# Altium schematic symbol library wr_switch.SCHLIB: 182 symbols (part 3 of 3)
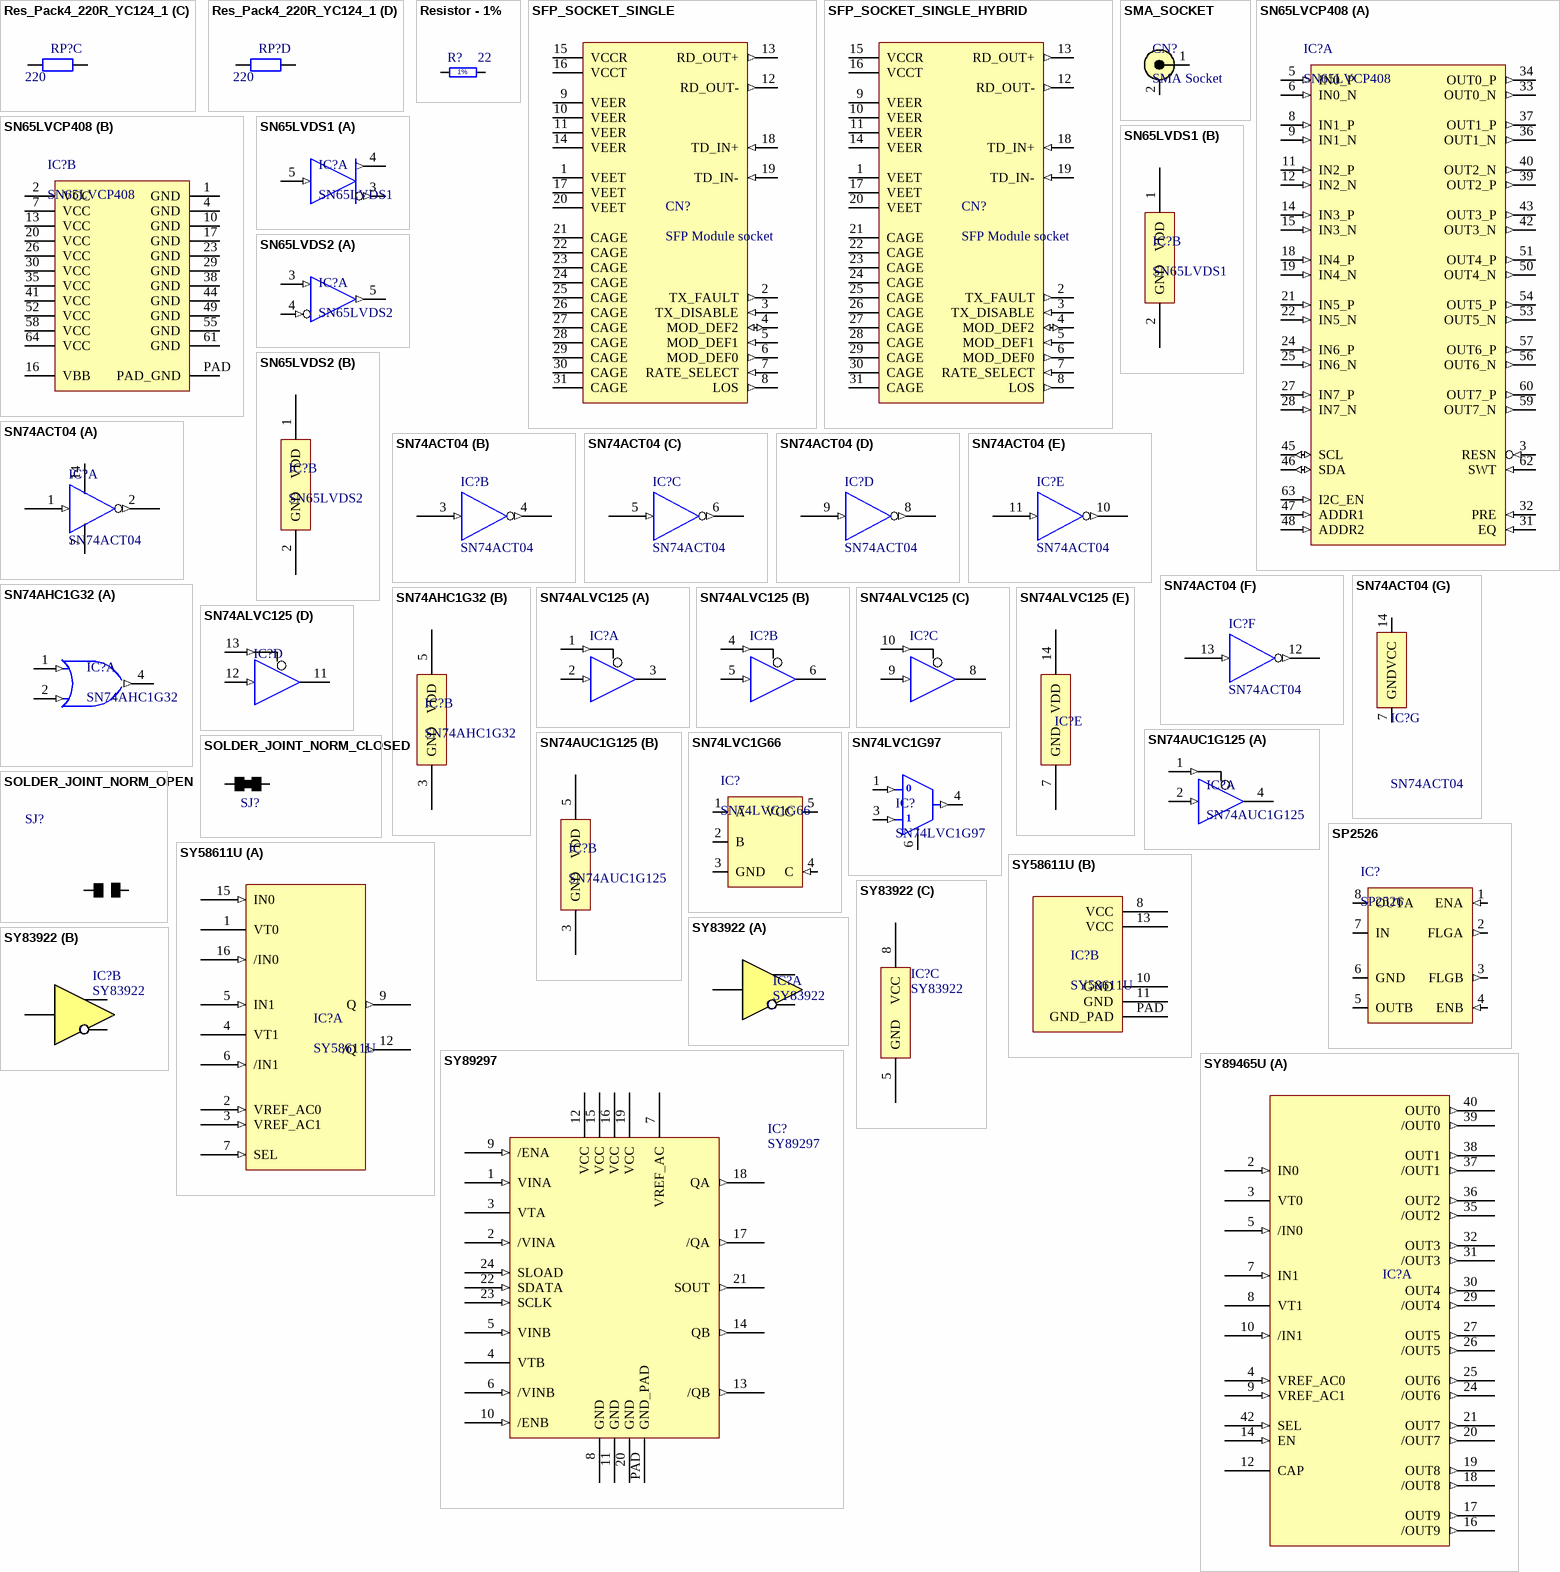
[diagram p25: symbols Res_Pack4_220R_YC124_1 to SY89465U]

## SFP_SOCKET_SINGLE
designator CN?, comment SFP Module socket
Socket for SFP module; RefId: Far/1256176
footprint SFP_SINGLE_PORT
pins: 1 VEET (power), 2 TX_FAULT (out), 3 TX_DISABLE (in), 4 MOD_DEF2 (io), 5 MOD_DEF1 (in), 6 MOD_DEF0 (out), 7 RATE_SELECT (in), 8 LOS (out), 9 VEER (power), 10 VEER (power), 11 VEER (power), 12 RD_OUT- (out), 13 RD_OUT+ (out), 14 VEER (power), 15 VCCR (power), 16 VCCT (power), 17 VEET (power), 18 TD_IN+ (in), 19 TD_IN- (in), 20 VEET (power), 21 CAGE (power), 22 CAGE (power), 23 CAGE (power), 24 CAGE (power), 25 CAGE (power), 26 CAGE (power), 27 CAGE (power), 28 CAGE (power), 29 CAGE (power), 30 CAGE (power), 31 CAGE (power)

## SFP_SOCKET_SINGLE_HYBRID
designator CN?, comment SFP Module socket
Socket for SFP module; RefId: Far/1256176
footprint SFP_SINGLE_PORT_HYBRID
pins: 1 VEET (power), 2 TX_FAULT (out), 3 TX_DISABLE (in), 4 MOD_DEF2 (io), 5 MOD_DEF1 (in), 6 MOD_DEF0 (out), 7 RATE_SELECT (in), 8 LOS (out), 9 VEER (power), 10 VEER (power), 10A VEER (power), 11 VEER (power), 11A VEER (power), 12 RD_OUT- (out), 12A RD_OUT- (out), 13 RD_OUT+ (out), 13A RD_OUT+ (out), 14 VEER (power), 14A VEER (power), 15 VCCR (power), 15A VCCR (power), 16 VCCT (power), 16A VCCT (power), 17 VEET (power), 17A VEET (power), 18 TD_IN+ (in), 18A TD_IN+ (in), 19 TD_IN- (in), 19A TD_IN- (in), 20 VEET (power), 20A VEET (power), 21 CAGE (power), 22 CAGE (power), 23 CAGE (power), 24 CAGE (power), 25 CAGE (power), 26 CAGE (power), 27 CAGE (power), 28 CAGE (power), 29 CAGE (power), 30 CAGE (power), 31 CAGE (power)

## SMA_SOCKET
designator CN?, comment SMA Socket
Value: Tyco 5-1814400-1; Supplier: Farnell 1556649
pins: 1 HOT, 2 GND

## SN65LVCP408
designator IC?
TI 8x8 gigabit crosspoint
footprint HTQFP64
part A pins: 3 RESN (in), 5 IN0_P (in), 6 IN0_N (in), 8 IN1_P (in), 9 IN1_N (in), 11 IN2_P (in), 12 IN2_N (in), 14 IN3_P (in), 15 IN3_N (in), 18 IN4_P (in), 19 IN4_N (in), 21 IN5_P (in), 22 IN5_N (in), 24 IN6_P (in), 25 IN6_N (in), 27 IN7_P (in), 28 IN7_N (in), 31 EQ (in), 32 PRE (in), 33 OUT0_N (out), 34 OUT0_P (out), 36 OUT1_N (out), 37 OUT1_P (out), 39 OUT2_P (out), 40 OUT2_N (out), 42 OUT3_N (out), 43 OUT3_P (out), 45 SCL (io), 46 SDA (io), 47 ADDR1 (in), 48 ADDR2 (in), 50 OUT4_N (out), 51 OUT4_P (out), 53 OUT5_N (out), 54 OUT5_P (out), 56 OUT6_N (out), 57 OUT6_P (out), 59 OUT7_N (out), 60 OUT7_P (out), 62 SWT (in), 63 I2C_EN (in)
part B pins: 1 GND (power), 2 VCC (power), 4 GND (power), 7 VCC (power), 10 GND (power), 13 VCC (power), 16 VBB (power), 17 GND (power), 20 VCC (power), 23 GND (power), 26 VCC (power), 29 GND (power), 30 VCC (power), 35 VCC (power), 38 GND (power), 41 VCC (power), 44 GND (power), 49 GND (power), 52 VCC (power), 55 GND (power), 58 VCC (power), 61 GND (power), 64 VCC (power), PAD PAD_GND (power)

## SN65LVDS1
designator IC?
TTL->LVDS buffer; RefId: 8452482; Value: SN65LVDS1DBVT; Supplier: Farnell
footprint SOT23-5AL (SOT23, 5-Leads, Body 2.9x1.6mm, Pitch 0.95mm, Lead Span 2.8mm, IPC High Density)
part A pins: 3 /Q (out), 4 Q (out), 5 A (in)
part B pins: 1 VDD, 2 GND

## SN65LVDS2
designator IC?
LVDS->TTL buffer; RefId: 1652269; Value: SN65LVDS2DBVR; Supplier: Farnell
footprint SOT23-5AL (SOT23, 5-Leads, Body 2.9x1.6mm, Pitch 0.95mm, Lead Span 2.8mm, IPC High Density)
part A pins: 3 A (in), 4 /A (in), 5 Q (out)
part B pins: 1 VDD, 2 GND

## SN74ACT04
designator IC?
Hex inverter
footprint DIP-14
footprint SO-14
part A pins: 1 (in), 2 (out), 7 (power), 14 (power)
part B pins: 3 (in), 4 (out)
part C pins: 5 (in), 6 (out)
part D pins: 8 (out), 9 (in)
part E pins: 10 (out), 11 (in)
part F pins: 12 (out), 13 (in)
part G pins: 7 GND (power), 14 VCC (power)
2 alternate drawings of the same symbol

## SN74AHC1G32
designator IC?
TI single OR gate; RefId: SN74AHC1G32DBVT-ND; Value: SN74AHC1G32DBVT-ND; Supplier: Digikey
footprint SOT23-5AL (SOT23, 5-Leads, Body 2.9x1.6mm, Pitch 0.95mm, Lead Span 2.8mm, IPC High Density)
part A pins: 1 A (in), 2 B (in), 4 Y (out)
part B pins: 3 GND, 5 VDD

## SN74ALVC125
designator IC?  (value not drawn)
Quad Buffer with 3-State Outputs with TTL Compatible Inputs; Value: SN74ALVC125
footprint SO-14
footprint 751A-03_L (SOIC, 14-Leads, Body 8.7x3.9mm, Pitch 1.27mm, IPC High Density)
footprint 751A-03_M (SOIC, 14-Leads, Body 8.7x3.9mm, Pitch 1.27mm, IPC Low Density)
signal-integrity model MC74ACT125D
part A pins: 1 ~{A} (in), 2 B (in), 3 Y (hiz)
part B pins: 4 ~{A} (in), 5 B (in), 6 Y (hiz)
part C pins: 8 Y (hiz), 9 B (in), 10 ~{A} (in)
part D pins: 11 Y (hiz), 12 B (in), 13 ~{A} (in)
part E pins: 7 GND, 14 VDD

## SN74AUC1G125
designator IC?
TI 2.5V single tri-state buffer; RefId: 1606269; Value: SN74AUC1G125DBVR; Supplier: Farnell
footprint SOT23-5AL (SOT23, 5-Leads, Body 2.9x1.6mm, Pitch 0.95mm, Lead Span 2.8mm, IPC High Density)
part A pins: 1 ~{OE} (in), 2 A (in), 4 Y (hiz)
part B pins: 3 GND, 5 VDD

## SN74LVC1G66
designator IC?
TI single analog switch; RefId: Far/1287587
footprint TI_DCK5
pins: 1 A, 2 B, 3 GND (power), 4 C (in), 5 VCC (power)

## SN74LVC1G97
designator IC?
Single-gate dual input multiplexer, LVC series; Value: SN74LVC1G97
footprint SOT23A-6L (SOT23, 6-Leads, Body 2.9x1.7mm, Pitch 0.95mm, Lead Span 2.8mm, IPC High Density)
pins: 1 A (in), 2 GND (power) hidden to GND, 3 B (in), 4 Y (out), 5 VCC (power) hidden to VCC, 6
text: 0

## SOLDER_JOINT_NORM_CLOSED
designator SJ?, comment Solder joint (closed)  (value not drawn)
footprint SJOINT_norm_short
pins: 1 P1, 2 P2

## SOLDER_JOINT_NORM_OPEN
designator SJ?, comment Solder joint (open)  (value not drawn)
footprint SJOINT_norm_open
pins: 1 P1, 2 P2

## SP2526
designator IC?
USB power switch; RefId: Far/9386610
footprint SOIC127P600-8AL (SOIC, 8-Leads, Body 4.9x3.9mm, Pitch 1.27mm, IPC High Density)
pins: 1 ENA (in), 2 FLGA (out), 3 FLGB (out), 4 ENB (in), 5 OUTB (power), 6 GND (power), 7 IN (power), 8 OUTA (power)

## SY58611U
designator IC?
Micrel 2:1 LVDS MUX
part A pins: 1 VT0, 2 VREF_AC0 (in), 3 VREF_AC1 (in), 4 VT1, 5 IN1 (in), 6 /IN1 (in), 7 SEL (in), 9 Q (out), 12 /Q (out), 15 IN0 (in), 16 /IN0 (in)
part B pins: 8 VCC (power), 10 GND (power), 11 GND (power), 13 VCC (power), PAD GND_PAD (power)

## SY83922
designator IC?
Dual LVTTL/LVCMOS to LVPECL buffer
part A pins: 1 Q0+, 2 Q0-, 7 IN0
part B pins: 3 Q1+, 4 Q1-, 6 IN1
part C pins: 5 GND (power), 8 VCC (power)

## SY89297
designator IC?
Precision delay line
pins: 1 VINA (in), 2 /VINA (in), 3 VTA, 4 VTB, 5 VINB (in), 6 /VINB (in), 7 VREF_AC (power), 8 GND (power), 9 /ENA (in), 10 /ENB (in), 11 GND (power), 12 VCC (power), 13 /QB (out), 14 QB (out), 15 VCC (power), 16 VCC (power), 17 /QA (out), 18 QA (out), 19 VCC (power), 20 GND (power), 21 SOUT (out), 22 SDATA (in), 23 SCLK (in), 24 SLOAD (in), PAD GND_PAD (power)

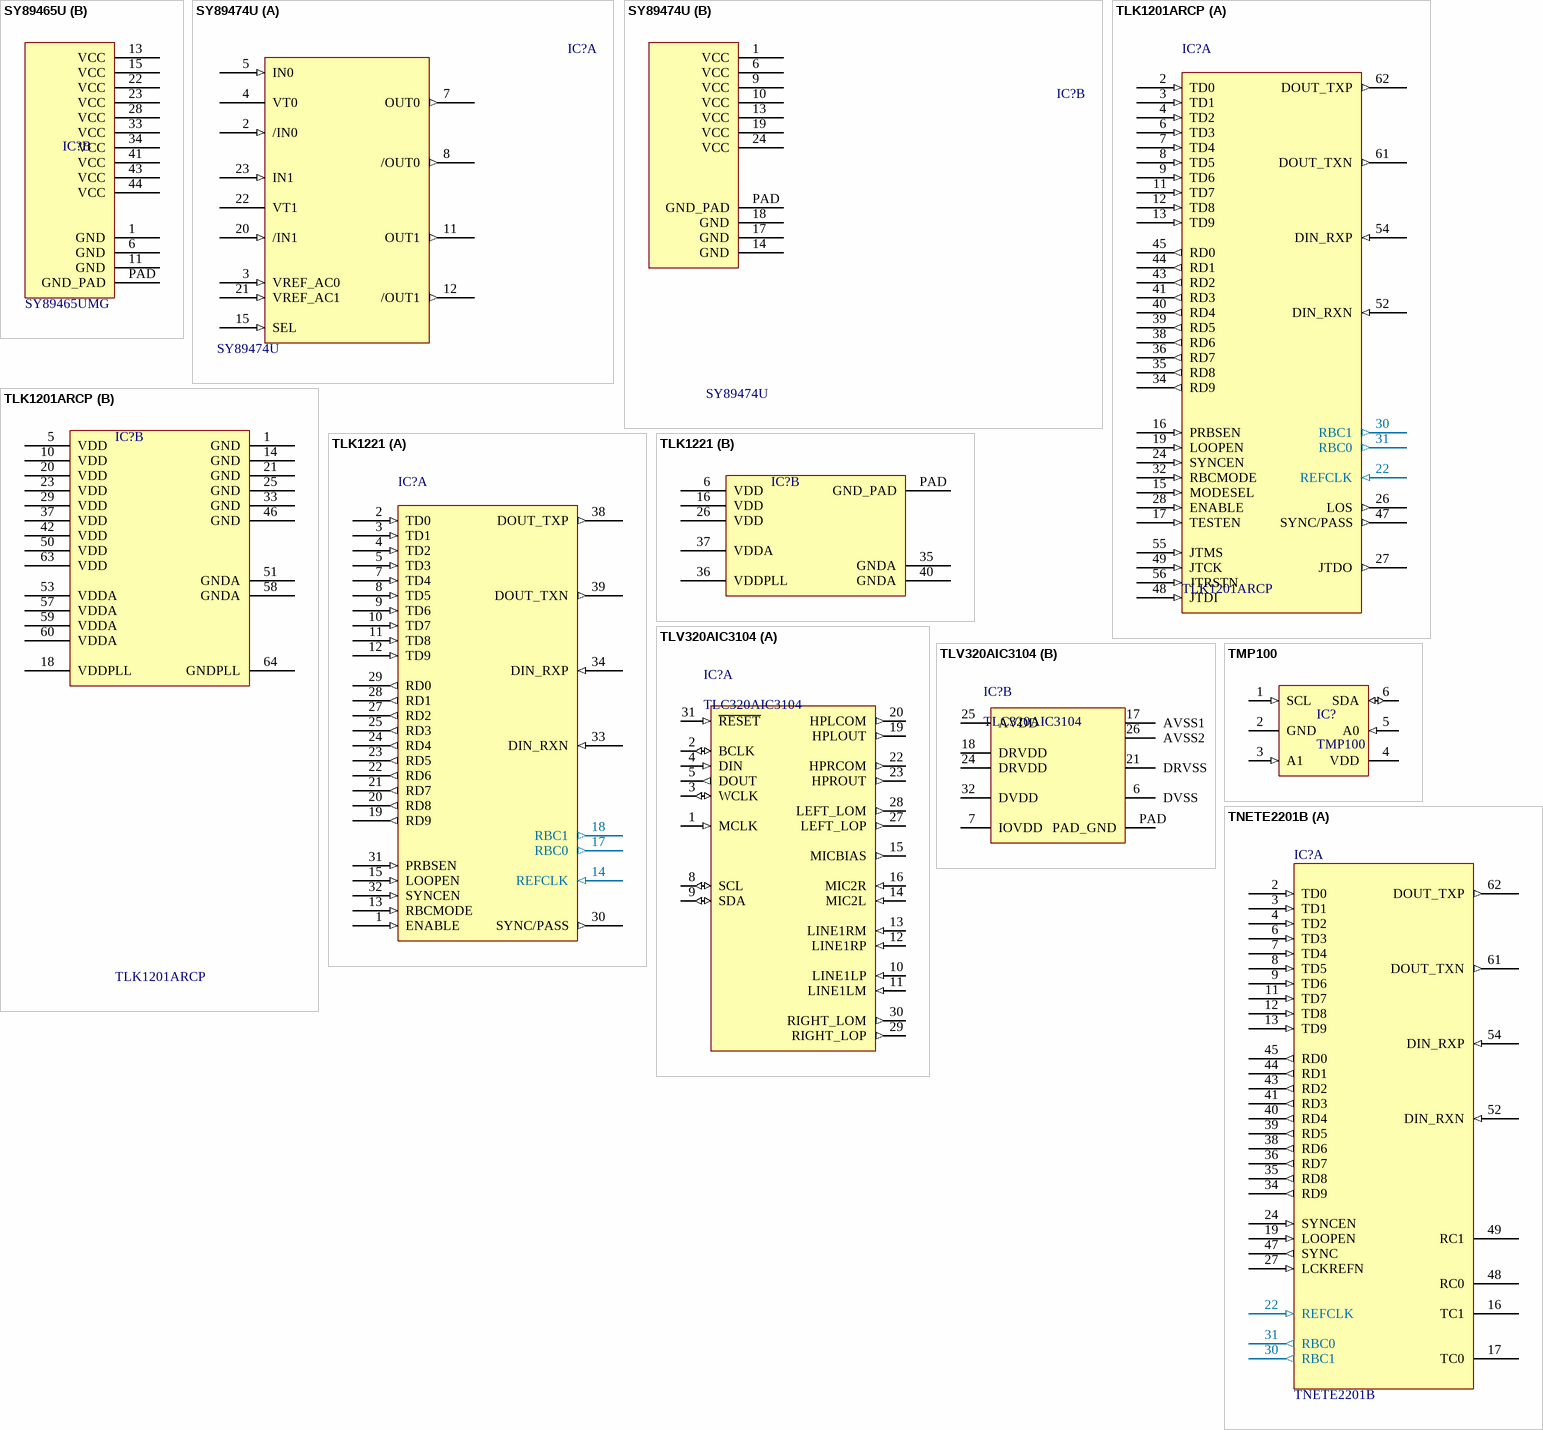
[diagram p18: symbols SY89465U to TNETE2201B]

## SY89465U
designator IC?  value SY89465UMG  (hidden comment: SY89465U)
Micrel 2:10 any->LVDS clock fanout; RefId: 576-1476-1-ND; Supplier: Digikey
footprint MLF44
part A pins: 2 IN0 (in), 3 VT0, 4 VREF_AC0 (in), 5 /IN0 (in), 7 IN1 (in), 8 VT1, 9 VREF_AC1 (in), 10 /IN1 (in), 12 CAP, 14 EN (in), 16 /OUT9 (out), 17 OUT9 (out), 18 /OUT8 (out), 19 OUT8 (out), 20 /OUT7 (out), 21 OUT7 (out), 24 /OUT6 (out), 25 OUT6 (out), 26 /OUT5 (out), 27 OUT5 (out), 29 /OUT4 (out), 30 OUT4 (out), 31 /OUT3 (out), 32 OUT3 (out), 35 /OUT2 (out), 36 OUT2 (out), 37 /OUT1 (out), 38 OUT1 (out), 39 /OUT0 (out), 40 OUT0 (out), 42 SEL (in)
part B pins: 1 GND (power), 6 GND (power), 11 GND (power), 13 VCC (power), 15 VCC (power), 22 VCC (power), 23 VCC (power), 28 VCC (power), 33 VCC (power), 34 VCC (power), 41 VCC (power), 43 VCC (power), 44 VCC (power), PAD GND_PAD (power)

## SY89474U
designator IC?
2:1 differential clock mux/2-output fanout; RefId: 576-2562-ND; Supplier: Digikey; Value: SY89474U
footprint MLF24
part A pins: 2 /IN0 (in), 3 VREF_AC0 (in), 4 VT0, 5 IN0 (in), 7 OUT0 (out), 8 /OUT0 (out), 11 OUT1 (out), 12 /OUT1 (out), 15 SEL (in), 20 /IN1 (in), 21 VREF_AC1 (in), 22 VT1, 23 IN1 (in)
part B pins: 1 VCC (power), 6 VCC (power), 9 VCC (power), 10 VCC (power), 13 VCC (power), 14 GND (power), 17 GND (power), 18 GND (power), 19 VCC (power), 24 VCC (power), PAD GND_PAD (power)

## TLK1201ARCP
designator IC?
Texas Instruments Gigabit Ethernet PHY with deterministic clocking and LVPECL output interface
part A pins: 2 TD0 (in), 3 TD1 (in), 4 TD2 (in), 6 TD3 (in), 7 TD4 (in), 8 TD5 (in), 9 TD6 (in), 11 TD7 (in), 12 TD8 (in), 13 TD9 (in), 15 MODESEL (in), 16 PRBSEN (in), 17 TESTEN (in), 19 LOOPEN (in), 22 REFCLK (in), 24 SYNCEN (in), 26 LOS (out), 27 JTDO (out), 28 ENABLE (in), 30 RBC1 (out), 31 RBC0 (out), 32 RBCMODE (in), 34 RD9 (out), 35 RD8 (out), 36 RD7 (out), 38 RD6 (out), 39 RD5 (out), 40 RD4 (out), 41 RD3 (out), 43 RD2 (out), 44 RD1 (out), 45 RD0 (out), 47 SYNC/PASS (out), 48 JTDI (in), 49 JTCK (in), 52 DIN_RXN (in), 54 DIN_RXP (in), 55 JTMS (in), 56 JTRSTN (in), 61 DOUT_TXN (out), 62 DOUT_TXP (out)
part B pins: 1 GND (power), 5 VDD (power), 10 VDD (power), 14 GND (power), 18 VDDPLL (power), 20 VDD (power), 21 GND (power), 23 VDD (power), 25 GND (power), 29 VDD (power), 33 GND (power), 37 VDD (power), 42 VDD (power), 46 GND (power), 50 VDD (power), 51 GNDA (power), 53 VDDA (power), 57 VDDA (power), 58 GNDA (power), 59 VDDA (power), 60 VDDA (power), 63 VDD (power), 64 GNDPLL (power)

## TLK1221
designator IC?  (value not drawn)
Texas Instruments Gigabit Ethernet PHY with deterministic clocking and LVPECL output interface; RefId: 1576976; Value: TLK1221RHAT; Supplier: Farnell
footprint QFN40_powerpad
part A pins: 1 ENABLE (in), 2 TD0 (in), 3 TD1 (in), 4 TD2 (in), 5 TD3 (in), 7 TD4 (in), 8 TD5 (in), 9 TD6 (in), 10 TD7 (in), 11 TD8 (in), 12 TD9 (in), 13 RBCMODE (in), 14 REFCLK (in), 15 LOOPEN (in), 17 RBC0 (out), 18 RBC1 (out), 19 RD9 (out), 20 RD8 (out), 21 RD7 (out), 22 RD6 (out), 23 RD5 (out), 24 RD4 (out), 25 RD3 (out), 27 RD2 (out), 28 RD1 (out), 29 RD0 (out), 30 SYNC/PASS (out), 31 PRBSEN (in), 32 SYNCEN (in), 33 DIN_RXN (in), 34 DIN_RXP (in), 38 DOUT_TXP (out), 39 DOUT_TXN (out)
part B pins: 6 VDD (power), 16 VDD (power), 26 VDD (power), 35 GNDA (power), 36 VDDPLL (power), 37 VDDA (power), 40 GNDA (power), PAD GND_PAD (power)

## TLV320AIC3104
designator IC?, comment TLC320AIC3104
TI audio codec
part A pins: 1 MCLK (in), 2 BCLK (io), 3 WCLK (io), 4 DIN (in), 5 DOUT (out), 8 SCL (io), 9 SDA (io), 10 LINE1LP (in), 11 LINE1LM (in), 12 LINE1RP (in), 13 LINE1RM (in), 14 MIC2L (in), 15 MICBIAS (out), 16 MIC2R (in), 19 HPLOUT (out), 20 HPLCOM (out), 22 HPRCOM (out), 23 HPROUT (out), 27 LEFT_LOP (out), 28 LEFT_LOM (out), 29 RIGHT_LOP (out), 30 RIGHT_LOM (out), 31 ~{RESET} (in)
part B pins: 6 DVSS (power), 7 IOVDD (power), 17 AVSS1 (power), 18 DRVDD (power), 21 DRVSS (power), 24 DRVDD (power), 25 AVDD (power), 26 AVSS2 (power), 32 DVDD (power), PAD PAD_GND (power)

## TMP100
designator IC?
I2C temp. sensor; RefId: 296-12750-1-ND; Value: TMP101NA/250; Supplier: Digikey
footprint SOT23A-6L (SOT23, 6-Leads, Body 2.9x1.7mm, Pitch 0.95mm, Lead Span 2.8mm, IPC High Density)
pins: 1 SCL (in), 2 GND (power), 3 A1 (in), 4 VDD (power), 5 A0 (in), 6 SDA (io)

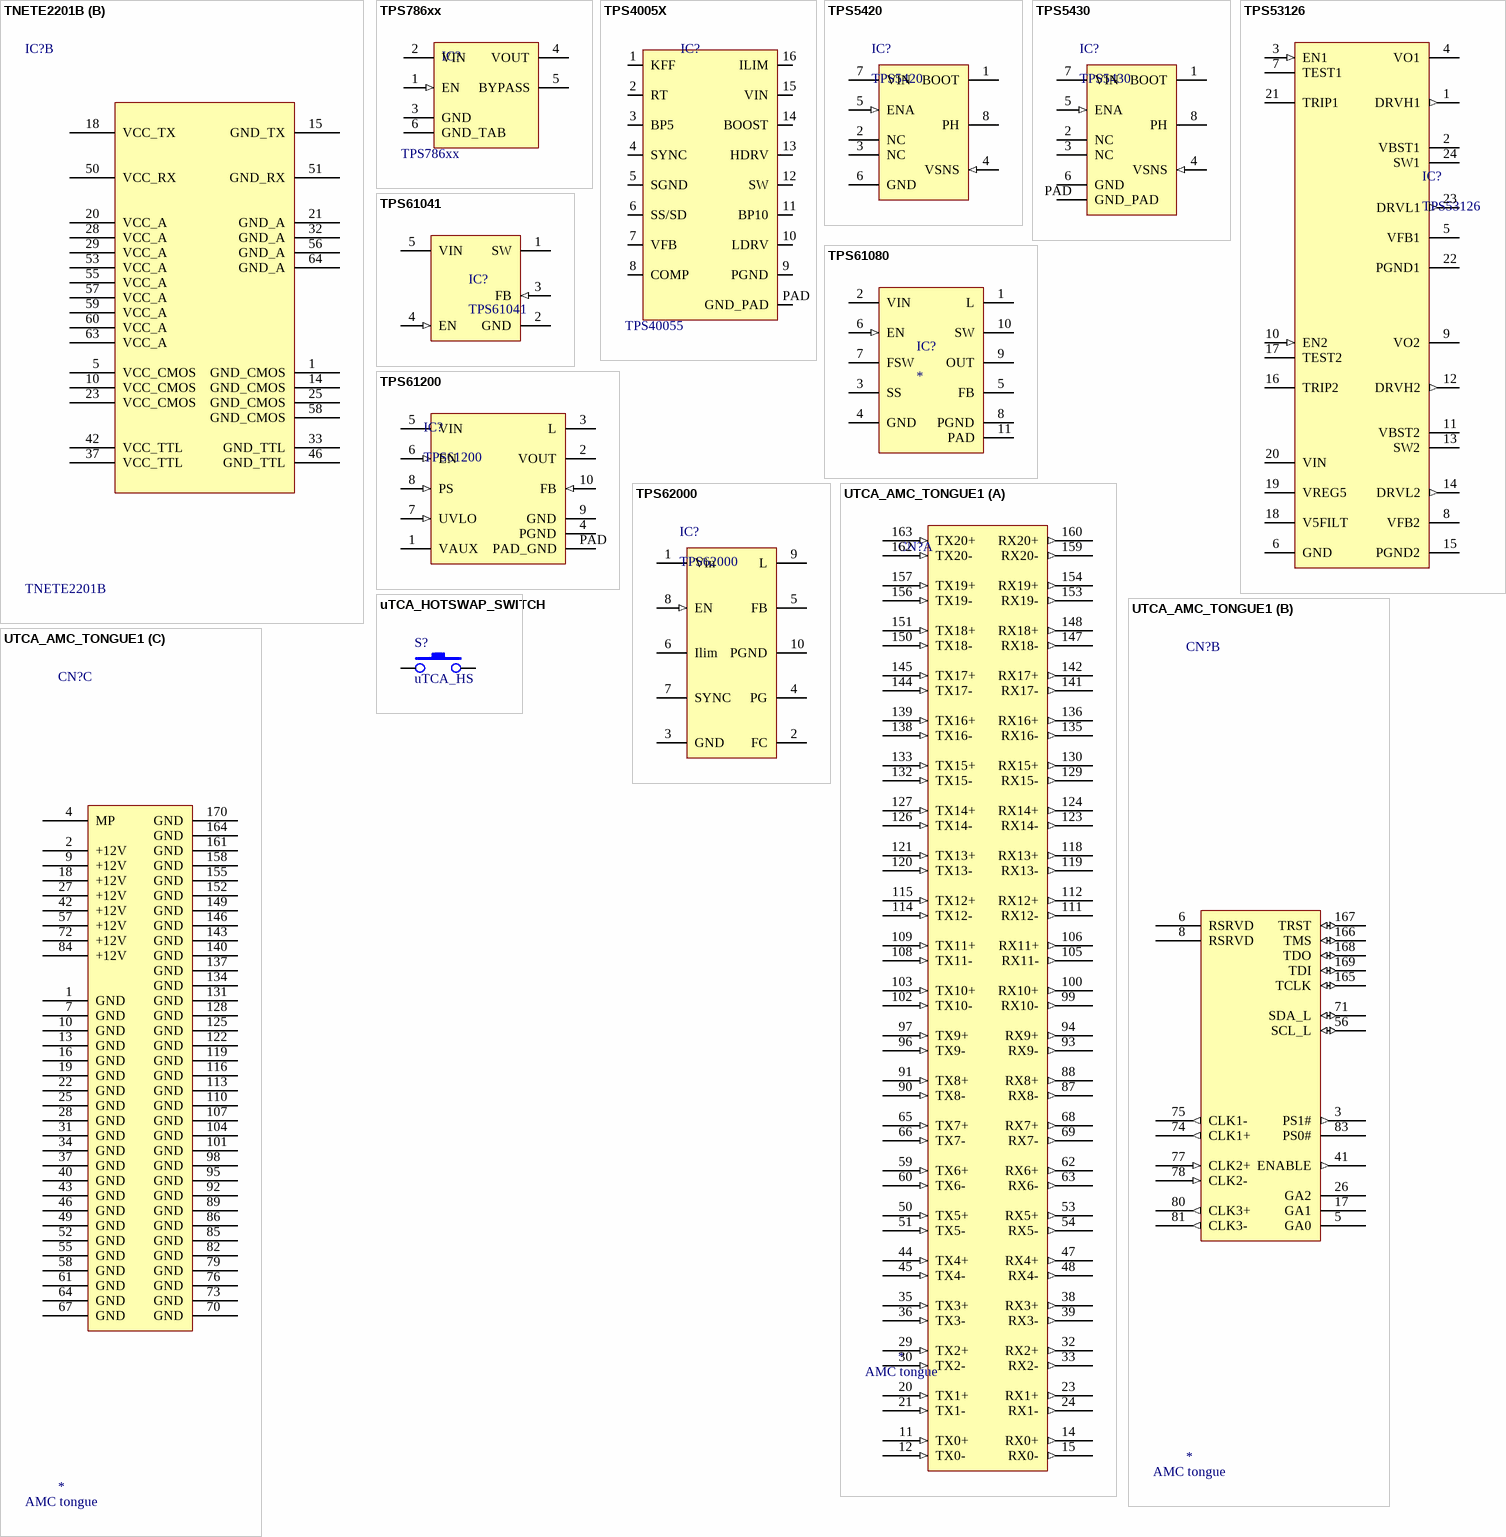
[diagram p19: symbols TNETE2201B to uTCA_HOTSWAP_SWITCH]

## TNETE2201B
designator IC?
Texas Instruments Gigabit Ethernet PHY with deterministic clocking and LVPECL output interface
part A pins: 2 TD0 (in), 3 TD1 (in), 4 TD2 (in), 6 TD3 (in), 7 TD4 (in), 8 TD5 (in), 9 TD6 (in), 11 TD7 (in), 12 TD8 (in), 13 TD9 (in), 16 TC1, 17 TC0, 19 LOOPEN (in), 22 REFCLK (in), 24 SYNCEN (in), 27 LCKREFN (in), 30 RBC1 (out), 31 RBC0 (out), 34 RD9 (out), 35 RD8 (out), 36 RD7 (out), 38 RD6 (out), 39 RD5 (out), 40 RD4 (out), 41 RD3 (out), 43 RD2 (out), 44 RD1 (out), 45 RD0 (out), 47 SYNC (out), 48 RC0, 49 RC1, 52 DIN_RXN (in), 54 DIN_RXP (in), 61 DOUT_TXN (out), 62 DOUT_TXP (out)
part B pins: 1 GND_CMOS (power), 5 VCC_CMOS (power), 10 VCC_CMOS (power), 14 GND_CMOS (power), 15 GND_TX (power), 18 VCC_TX (power), 20 VCC_A (power), 21 GND_A (power), 23 VCC_CMOS (power), 25 GND_CMOS (power), 28 VCC_A (power), 29 VCC_A (power), 32 GND_A (power), 33 GND_TTL (power), 37 VCC_TTL (power), 42 VCC_TTL (power), 46 GND_TTL (power), 50 VCC_RX (power), 51 GND_RX (power), 53 VCC_A (power), 55 VCC_A (power), 56 GND_A (power), 57 VCC_A (power), 58 GND_CMOS (power), 59 VCC_A (power), 60 VCC_A (power), 63 VCC_A (power), 64 GND_A (power)

## TPS786xx
designator IC?
TI low noise LDO, 1A load; Value: TPS786xx
footprint SOT223-6L (SOT223, 6-Leads, Body 6.5x3.5mm, Pitch 2.3mm, Lead Span 7mm, IPC High Density)
pins: 1 EN (in), 2 VIN (oe), 3 GND, 4 VOUT (power), 5 BYPASS, 6 GND_TAB

## TPS4005X
designator IC?  value TPS40055  (hidden comment: TPS4005X)
TI synchronous buck controller; RefId: 1535777; Supplier: Farnell
footprint TI_PWP_16 (SOP, 16-Leads, Body 5x4.4mm, Pitch 0.65mm, IPC High Density)
pins: 1 KFF, 2 RT, 3 BP5, 4 SYNC, 5 SGND, 6 SS/SD, 7 VFB, 8 COMP, 9 PGND, 10 LDRV, 11 BP10, 12 SW, 13 HDRV, 14 BOOST, 15 VIN, 16 ILIM, PAD GND_PAD

## TPS5420
designator IC?
Step-down switchmode converter
footprint SOIC127P600-8AL (SOIC, 8-Leads, Body 4.9x3.9mm, Pitch 1.27mm, IPC High Density)
pins: 1 BOOT, 2 NC, 3 NC, 4 VSNS (in), 5 ENA (in), 6 GND (power), 7 VIN (power), 8 PH (power)

## TPS5430
designator IC?
Step-down switchmode converter
footprint SOIC127P600-8AL_POWERPAD (SOIC, 8-Leads, Body 4.9x3.9mm, Pitch 1.27mm, IPC High Density)
pins: 1 BOOT, 2 NC, 3 NC, 4 VSNS (in), 5 ENA (in), 6 GND (power), 7 VIN (power), 8 PH (power), PAD GND_PAD (power)

## TPS53126
designator IC?
dual synchronous buck controller
footprint TSOP65P640-24AM (TSOP, 24-Leads, Body 7.8x4.4mm, Pitch 0.65mm, IPC Low Density)
pins: 1 DRVH1 (out), 2 VBST1, 3 EN1 (in), 4 VO1 (power), 5 VFB1, 6 GND (power), 7 TEST1, 8 VFB2, 9 VO2 (power), 10 EN2 (in), 11 VBST2, 12 DRVH2 (out), 13 SW2, 14 DRVL2 (out), 15 PGND2 (power), 16 TRIP2 (power), 17 TEST2, 18 V5FILT, 19 VREG5, 20 VIN (power), 21 TRIP1 (power), 22 PGND1 (power), 23 DRVL1 (out), 24 SW1

## TPS61041
designator IC?
RefId: 1564963; Value: TPS61041DBVR; Supplier: Farnell
footprint sot23-5
pins: 1 SW, 2 GND (power), 3 FB (in), 4 EN (in), 5 VIN

## TPS61080
designator IC?
TI boost converter; Value: TPS61080DRC
footprint SON50P300X300X80-10W2L (SON, 10-Leads, Body 3x3 mm, Pitch 0.5mm, IPC High Density)
pins: 1 L, 2 VIN (power), 3 SS, 4 GND (power), 5 FB, 6 EN (in), 7 FSW, 8 PGND, 9 OUT, 10 SW, 11 PAD

## TPS61200
designator IC?
TI boost converter
footprint TI_SON10
pins: 1 VAUX, 2 VOUT (power), 3 L, 4 PGND (power), 5 VIN (power), 6 EN (in), 7 UVLO (in), 8 PS (in), 9 GND (power), 10 FB (in), PAD PAD_GND

## TPS62000
designator IC?
TI sync converter
footprint TSSOP50P490-10AL (TSSOP, 10-Leads, Body 3x3mm, Pitch 0.5mm, IPC High Density)
pins: 1 Vin (power), 2 FC, 3 GND (power), 4 PG (oc), 5 FB, 6 Ilim, 7 SYNC, 8 EN (in), 9 L, 10 PGND (power)

## UTCA_AMC_TONGUE1
designator CN?  value AMC tongue
AMC1.0 connector
footprint UTCA_AMC_TONGUE (uTCA AMC1.0 AMC tongue connector)
part A pins: 11 TX0+ (in), 12 TX0- (in), 14 RX0+ (out), 15 RX0- (out), 20 TX1+ (in), 21 TX1- (in), 23 RX1+ (out), 24 RX1- (out), 29 TX2+ (in), 30 TX2- (in), 32 RX2+ (out), 33 RX2- (out), 35 TX3+ (in), 36 TX3- (in), 38 RX3+ (out), 39 RX3- (out), 44 TX4+ (in), 45 TX4- (in), 47 RX4+ (out), 48 RX4- (out), 50 TX5+ (in), 51 TX5- (in), 53 RX5+ (out), 54 RX5- (out), 59 TX6+ (in), 60 TX6- (in), 62 RX6+ (out), 63 RX6- (out), 65 TX7+ (in), 66 TX7- (in), 68 RX7+ (out), 69 RX7- (out), 87 RX8- (out), 88 RX8+ (out), 90 TX8- (in), 91 TX8+ (in), 93 RX9- (out), 94 RX9+ (out), 96 TX9- (in), 97 TX9+ (in), 99 RX10- (out), 100 RX10+ (out), 102 TX10- (in), 103 TX10+ (in), 105 RX11- (out), 106 RX11+ (out), 108 TX11- (in), 109 TX11+ (in), 111 RX12- (out), 112 RX12+ (out), 114 TX12- (in), 115 TX12+ (in), 118 RX13+ (out), 119 RX13- (out), 120 TX13- (in), 121 TX13+ (in), 123 RX14- (out), 124 RX14+ (out), 126 TX14- (in), 127 TX14+ (in), 129 RX15- (out), 130 RX15+ (out), 132 TX15- (in), 133 TX15+ (in), 135 RX16- (out), 136 RX16+ (out), 138 TX16- (in), 139 TX16+ (in), 141 RX17- (out), 142 RX17+ (out), 144 TX17- (in), 145 TX17+ (in), 147 RX18- (out), 148 RX18+ (out), 150 TX18- (in), 151 TX18+ (in), 153 RX19- (out), 154 RX19+ (out), 156 TX19- (in), 157 TX19+ (in), 159 RX20- (out), 160 RX20+ (out), 162 TX20- (in), 163 TX20+ (in)
part B pins: 3 PS1# (out), 5 GA0, 6 RSRVD, 8 RSRVD, 17 GA1, 26 GA2, 41 ENABLE (out), 56 SCL_L (io), 71 SDA_L (io), 74 CLK1+ (out), 75 CLK1- (out), 77 CLK2+ (in), 78 CLK2- (in), 80 CLK3+ (out), 81 CLK3- (out), 83 PS0#, 165 TCLK (io), 166 TMS (io), 167 TRST (io), 168 TDO (io), 169 TDI (io)
part C pins: 1 GND (power), 2 +12V (power), 4 MP (power), 7 GND (power), 9 +12V (power), 10 GND (power), 13 GND (power), 16 GND (power), 18 +12V (power), 19 GND (power), 22 GND (power), 25 GND (power), 27 +12V (power), 28 GND (power), 31 GND (power), 34 GND (power), 37 GND (power), 40 GND (power), 42 +12V (power), 43 GND (power), 46 GND (power), 49 GND (power), 52 GND (power), 55 GND (power), 57 +12V (power), 58 GND (power), 61 GND (power), 64 GND (power), 67 GND (power), 70 GND (power), 72 +12V (power), 73 GND (power), 76 GND (power), 79 GND (power), 82 GND (power), 84 +12V (power), 85 GND (power), 86 GND (power), 89 GND (power), 92 GND (power), 95 GND (power), 98 GND (power), 101 GND (power), 104 GND (power), 107 GND (power), 110 GND (power), 113 GND (power), 116 GND (power), 119 GND (power), 122 GND (power), 125 GND (power), 128 GND (power), 131 GND (power), 134 GND (power), 137 GND (power), 140 GND (power), 143 GND (power), 146 GND (power), 149 GND (power), 152 GND (power), 155 GND (power), 158 GND (power), 161 GND (power), 164 GND (power), 170 GND (power)

## uTCA_HOTSWAP_SWITCH
designator S?, comment uTCA_HS
Push button; RefId: 20849-209; Value: uTCA hotswap switch; Supplier: Schroff
footprint uTCA_HOTSWAP_SWITCH
pins: A, B, C, D
2 alternate drawings of the same symbol

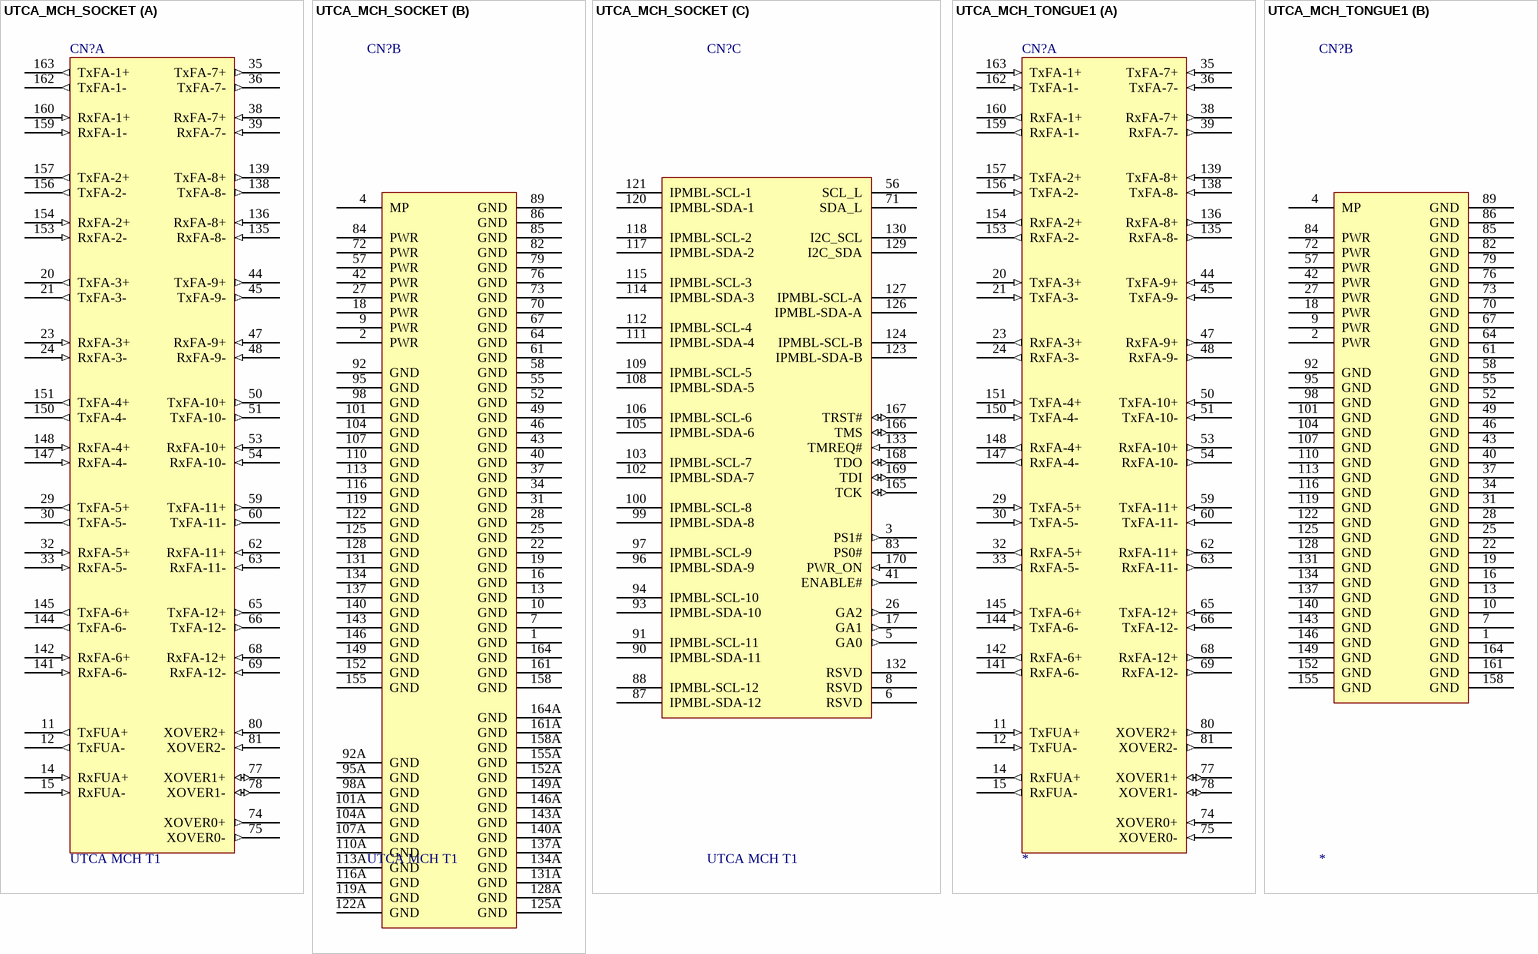
[diagram p20: symbols UTCA_MCH_SOCKET to UTCA_MCH_TONGUE1]

## UTCA_MCH_SOCKET
designator CN?, comment UTCA MCH T1
microTCA MTCA.0  MCH socket (AMC0.0 B+ connector with reversed pins); Value: MCH tongue 1; Value: MOLEX 75800-00001; RefId: 1353569; Supplier: Farnell
footprint CON_AMC_MOLEX_75800_00001_REVERSE (Molex AMC right-angle connector (pins reversed for the MCH))
part A pins: 11 TxFUA+ (out), 12 TxFUA- (out), 14 RxFUA+ (in), 15 RxFUA- (in), 20 TxFA-3+ (out), 21 TxFA-3- (out), 23 RxFA-3+ (in), 24 RxFA-3- (in), 29 TxFA-5+ (out), 30 TxFA-5- (out), 32 RxFA-5+ (in), 33 RxFA-5- (in), 35 TxFA-7+ (out), 36 TxFA-7- (out), 38 RxFA-7+ (in), 39 RxFA-7- (in), 44 TxFA-9+ (out), 45 TxFA-9- (out), 47 RxFA-9+ (in), 48 RxFA-9- (in), 50 TxFA-10+ (out), 51 TxFA-10- (out), 53 RxFA-10+ (in), 54 RxFA-10- (in), 59 TxFA-11+ (out), 60 TxFA-11- (out), 62 RxFA-11+ (in), 63 RxFA-11- (in), 65 TxFA-12+ (out), 66 TxFA-12- (out), 68 RxFA-12+ (in), 69 RxFA-12- (in), 74 XOVER0+ (out), 75 XOVER0- (out), 77 XOVER1+ (io), 78 XOVER1- (io), 80 XOVER2+ (in), 81 XOVER2- (in), 135 RxFA-8- (in), 136 RxFA-8+ (in), 138 TxFA-8- (out), 139 TxFA-8+ (out), 141 RxFA-6- (in), 142 RxFA-6+ (in), 144 TxFA-6- (out), 145 TxFA-6+ (out), 147 RxFA-4- (in), 148 RxFA-4+ (in), 150 TxFA-4- (out), 151 TxFA-4+ (out), 153 RxFA-2- (in), 154 RxFA-2+ (in), 156 TxFA-2- (out), 157 TxFA-2+ (out), 159 RxFA-1- (in), 160 RxFA-1+ (in), 162 TxFA-1- (out), 163 TxFA-1+ (out)
part B pins: 1 GND (power), 2 PWR (power), 4 MP (power), 7 GND (power), 9 PWR (power), 10 GND (power), 13 GND (power), 16 GND (power), 18 PWR (power), 19 GND (power), 22 GND (power), 25 GND (power), 27 PWR (power), 28 GND (power), 31 GND (power), 34 GND (power), 37 GND (power), 40 GND (power), 42 PWR (power), 43 GND (power), 46 GND (power), 49 GND (power), 52 GND (power), 55 GND (power), 57 PWR (power), 58 GND (power), 61 GND (power), 64 GND (power), 67 GND (power), 70 GND (power), 72 PWR (power), 73 GND (power), 76 GND (power), 79 GND (power), 82 GND (power), 84 PWR (power), 85 GND (power), 86 GND (power), 89 GND (power), 92 GND (power), 92A GND (power), 95 GND (power), 95A GND (power), 98 GND (power), 98A GND (power), 101 GND (power), 101A GND (power), 104 GND (power), 104A GND (power), 107 GND (power), 107A GND (power), 110 GND (power), 110A GND (power), 113 GND (power), 113A GND (power), 116 GND (power), 116A GND (power), 119 GND (power), 119A GND (power), 122 GND (power), 122A GND (power), 125 GND (power), 125A GND (power), 128 GND (power), 128A GND (power), 131 GND (power), 131A GND (power), 134 GND (power), 134A GND (power), 137 GND (power), 137A GND (power), 140 GND (power), 140A GND (power), 143 GND (power), 143A GND (power), 146 GND (power), 146A GND (power), 149 GND (power), 149A GND (power), 152 GND (power), 152A GND (power), 155 GND (power), 155A GND (power), 158 GND (power), 158A GND (power), 161 GND (power), 161A GND (power), 164 GND (power), 164A GND (power)
part C pins: 3 PS1# (out), 5 GA0 (out), 6 RSVD (hiz), 8 RSVD (hiz), 17 GA1 (out), 26 GA2 (out), 41 ENABLE# (out), 56 SCL_L (oc), 71 SDA_L (oc), 83 PS0#, 87 IPMBL-SDA-12 (oc), 88 IPMBL-SCL-12 (oc), 90 IPMBL-SDA-11 (oc), 91 IPMBL-SCL-11 (oc), 93 IPMBL-SDA-10 (oc), 94 IPMBL-SCL-10 (oc), 96 IPMBL-SDA-9 (oc), 97 IPMBL-SCL-9 (oc), 99 IPMBL-SDA-8 (oc), 100 IPMBL-SCL-8 (oc), 102 IPMBL-SDA-7 (oc), 103 IPMBL-SCL-7 (oc), 105 IPMBL-SDA-6 (oc), 106 IPMBL-SCL-6 (oc), 108 IPMBL-SDA-5 (oc), 109 IPMBL-SCL-5 (oc), 111 IPMBL-SDA-4 (oc), 112 IPMBL-SCL-4 (oc), 114 IPMBL-SDA-3 (oc), 115 IPMBL-SCL-3 (oc), 117 IPMBL-SDA-2 (oc), 118 IPMBL-SCL-2 (oc), 120 IPMBL-SDA-1 (oc), 121 IPMBL-SCL-1 (oc), 123 IPMBL-SDA-B (oc), 124 IPMBL-SCL-B (oc), 126 IPMBL-SDA-A (oc), 127 IPMBL-SCL-A (oc), 129 I2C_SDA (oc), 130 I2C_SCL (oc), 132 RSVD (hiz), 133 TMREQ# (in), 165 TCK (io), 166 TMS (io), 167 TRST# (io), 168 TDO (io), 169 TDI (io), 170 PWR_ON (in)

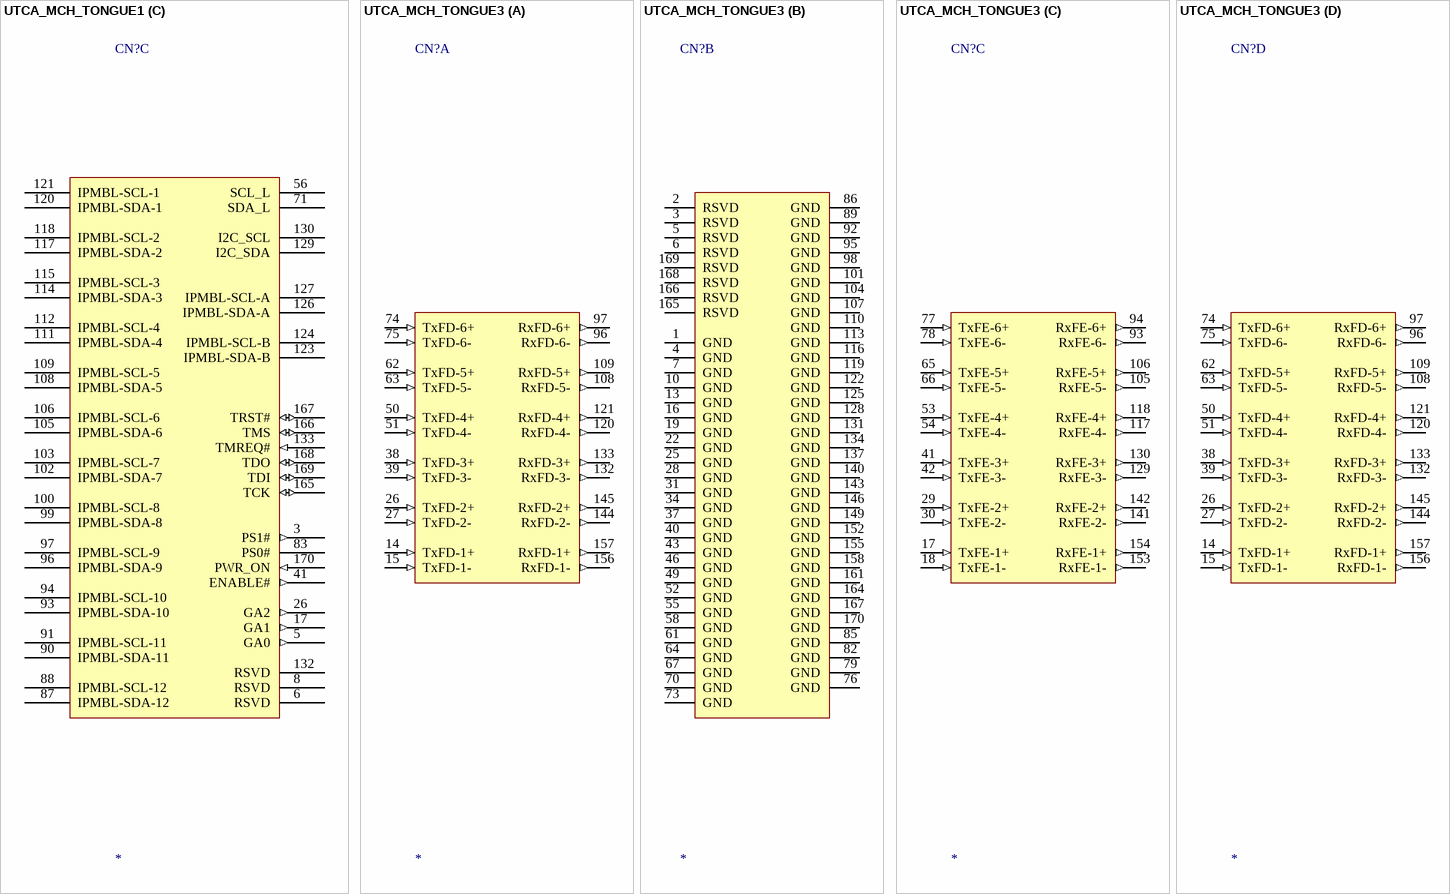
[diagram p21: symbols UTCA_MCH_TONGUE1 to UTCA_MCH_TONGUE3]

## UTCA_MCH_TONGUE1
designator CN?
microTCA MTCA.0 standard MCH connector 1; Value: MCH tongue 1
part A pins: 11 TxFUA+ (in), 12 TxFUA- (in), 14 RxFUA+ (out), 15 RxFUA- (out), 20 TxFA-3+ (in), 21 TxFA-3- (in), 23 RxFA-3+ (out), 24 RxFA-3- (out), 29 TxFA-5+ (in), 30 TxFA-5- (in), 32 RxFA-5+ (out), 33 RxFA-5- (out), 35 TxFA-7+ (in), 36 TxFA-7- (in), 38 RxFA-7+ (out), 39 RxFA-7- (out), 44 TxFA-9+ (in), 45 TxFA-9- (in), 47 RxFA-9+ (out), 48 RxFA-9- (out), 50 TxFA-10+ (in), 51 TxFA-10- (in), 53 RxFA-10+ (out), 54 RxFA-10- (out), 59 TxFA-11+ (in), 60 TxFA-11- (in), 62 RxFA-11+ (out), 63 RxFA-11- (out), 65 TxFA-12+ (in), 66 TxFA-12- (in), 68 RxFA-12+ (out), 69 RxFA-12- (out), 74 XOVER0+ (in), 75 XOVER0- (in), 77 XOVER1+ (io), 78 XOVER1- (io), 80 XOVER2+ (out), 81 XOVER2- (out), 135 RxFA-8- (out), 136 RxFA-8+ (out), 138 TxFA-8- (in), 139 TxFA-8+ (in), 141 RxFA-6- (out), 142 RxFA-6+ (out), 144 TxFA-6- (in), 145 TxFA-6+ (in), 147 RxFA-4- (out), 148 RxFA-4+ (out), 150 TxFA-4- (in), 151 TxFA-4+ (in), 153 RxFA-2- (out), 154 RxFA-2+ (out), 156 TxFA-2- (in), 157 TxFA-2+ (in), 159 RxFA-1- (out), 160 RxFA-1+ (out), 162 TxFA-1- (in), 163 TxFA-1+ (in)
part B pins: 1 GND (power), 2 PWR (power), 4 MP (power), 7 GND (power), 9 PWR (power), 10 GND (power), 13 GND (power), 16 GND (power), 18 PWR (power), 19 GND (power), 22 GND (power), 25 GND (power), 27 PWR (power), 28 GND (power), 31 GND (power), 34 GND (power), 37 GND (power), 40 GND (power), 42 PWR (power), 43 GND (power), 46 GND (power), 49 GND (power), 52 GND (power), 55 GND (power), 57 PWR (power), 58 GND (power), 61 GND (power), 64 GND (power), 67 GND (power), 70 GND (power), 72 PWR (power), 73 GND (power), 76 GND (power), 79 GND (power), 82 GND (power), 84 PWR (power), 85 GND (power), 86 GND (power), 89 GND (power), 92 GND (power), 95 GND (power), 98 GND (power), 101 GND (power), 104 GND (power), 107 GND (power), 110 GND (power), 113 GND (power), 116 GND (power), 119 GND (power), 122 GND (power), 125 GND (power), 128 GND (power), 131 GND (power), 134 GND (power), 137 GND (power), 140 GND (power), 143 GND (power), 146 GND (power), 149 GND (power), 152 GND (power), 155 GND (power), 158 GND (power), 161 GND (power), 164 GND (power)
part C pins: 3 PS1# (out), 5 GA0 (out), 6 RSVD (hiz), 8 RSVD (hiz), 17 GA1 (out), 26 GA2 (out), 41 ENABLE# (out), 56 SCL_L (oc), 71 SDA_L (oc), 83 PS0#, 87 IPMBL-SDA-12 (oc), 88 IPMBL-SCL-12 (oc), 90 IPMBL-SDA-11 (oc), 91 IPMBL-SCL-11 (oc), 93 IPMBL-SDA-10 (oc), 94 IPMBL-SCL-10 (oc), 96 IPMBL-SDA-9 (oc), 97 IPMBL-SCL-9 (oc), 99 IPMBL-SDA-8 (oc), 100 IPMBL-SCL-8 (oc), 102 IPMBL-SDA-7 (oc), 103 IPMBL-SCL-7 (oc), 105 IPMBL-SDA-6 (oc), 106 IPMBL-SCL-6 (oc), 108 IPMBL-SDA-5 (oc), 109 IPMBL-SCL-5 (oc), 111 IPMBL-SDA-4 (oc), 112 IPMBL-SCL-4 (oc), 114 IPMBL-SDA-3 (oc), 115 IPMBL-SCL-3 (oc), 117 IPMBL-SDA-2 (oc), 118 IPMBL-SCL-2 (oc), 120 IPMBL-SDA-1 (oc), 121 IPMBL-SCL-1 (oc), 123 IPMBL-SDA-B (oc), 124 IPMBL-SCL-B (oc), 126 IPMBL-SDA-A (oc), 127 IPMBL-SCL-A (oc), 129 I2C_SDA (oc), 130 I2C_SCL (oc), 132 RSVD (hiz), 133 TMREQ# (in), 165 TCK (io), 166 TMS (io), 167 TRST# (io), 168 TDO (io), 169 TDI (io), 170 PWR_ON (in)

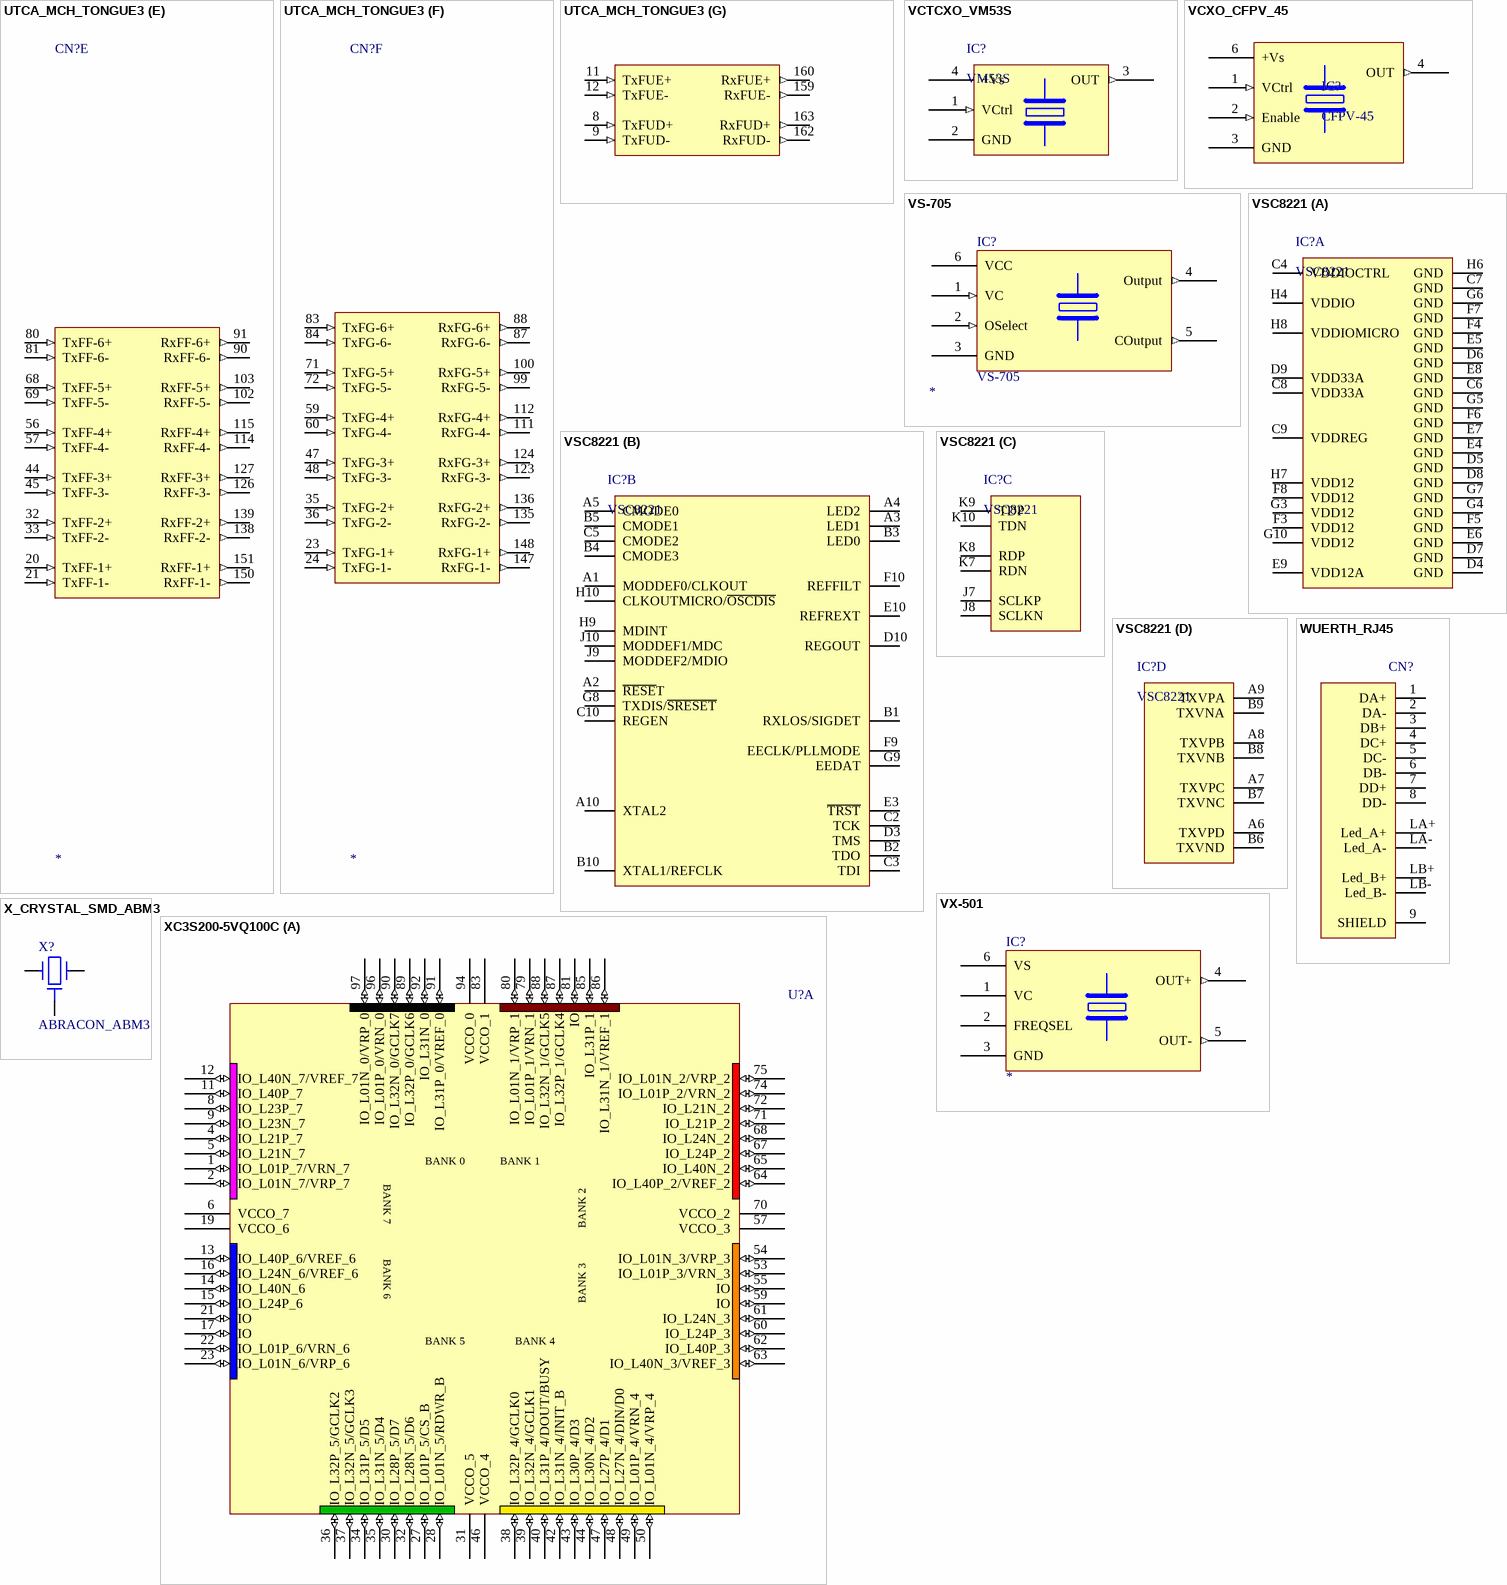
[diagram p22: symbols UTCA_MCH_TONGUE3 to XC3S200-5VQ100C]

## UTCA_MCH_TONGUE3
designator CN?
microTCA MTCA.0 standard MCH connector 3; Value: MCH tongue 3
footprint UTCA_MCH_TONGUE2_3_4 (uTCA MTCA.0 MCH tongue connector)
part A pins: 14 TxFD-1+ (in), 15 TxFD-1- (in), 26 TxFD-2+ (in), 27 TxFD-2- (in), 38 TxFD-3+ (in), 39 TxFD-3- (in), 50 TxFD-4+ (in), 51 TxFD-4- (in), 62 TxFD-5+ (in), 63 TxFD-5- (in), 74 TxFD-6+ (in), 75 TxFD-6- (in), 96 RxFD-6- (out), 97 RxFD-6+ (out), 108 RxFD-5- (out), 109 RxFD-5+ (out), 120 RxFD-4- (out), 121 RxFD-4+ (out), 132 RxFD-3- (out), 133 RxFD-3+ (out), 144 RxFD-2- (out), 145 RxFD-2+ (out), 156 RxFD-1- (out), 157 RxFD-1+ (out)
part B pins: 1 GND (power), 2 RSVD, 3 RSVD, 4 GND (power), 5 RSVD, 6 RSVD, 7 GND (power), 10 GND (power), 13 GND (power), 16 GND (power), 19 GND (power), 22 GND (power), 25 GND (power), 28 GND (power), 31 GND (power), 34 GND (power), 37 GND (power), 40 GND (power), 43 GND (power), 46 GND (power), 49 GND (power), 52 GND (power), 55 GND (power), 58 GND (power), 61 GND (power), 64 GND (power), 67 GND (power), 70 GND (power), 73 GND (power), 76 GND (power), 79 GND (power), 82 GND (power), 85 GND (power), 86 GND (power), 89 GND (power), 92 GND (power), 95 GND (power), 98 GND (power), 101 GND (power), 104 GND (power), 107 GND (power), 110 GND (power), 113 GND (power), 116 GND (power), 119 GND (power), 122 GND (power), 125 GND (power), 128 GND (power), 131 GND (power), 134 GND (power), 137 GND (power), 140 GND (power), 143 GND (power), 146 GND (power), 149 GND (power), 152 GND (power), 155 GND (power), 158 GND (power), 161 GND (power), 164 GND (power), 165 RSVD, 166 RSVD, 167 GND (power), 168 RSVD, 169 RSVD, 170 GND (power)
part C pins: 17 TxFE-1+ (in), 18 TxFE-1- (in), 29 TxFE-2+ (in), 30 TxFE-2- (in), 41 TxFE-3+ (in), 42 TxFE-3- (in), 53 TxFE-4+ (in), 54 TxFE-4- (in), 65 TxFE-5+ (in), 66 TxFE-5- (in), 77 TxFE-6+ (in), 78 TxFE-6- (in), 93 RxFE-6- (out), 94 RxFE-6+ (out), 105 RxFE-5- (out), 106 RxFE-5+ (out), 117 RxFE-4- (out), 118 RxFE-4+ (out), 129 RxFE-3- (out), 130 RxFE-3+ (out), 141 RxFE-2- (out), 142 RxFE-2+ (out), 153 RxFE-1- (out), 154 RxFE-1+ (out)
part D pins: 14 TxFD-1+ (in), 15 TxFD-1- (in), 26 TxFD-2+ (in), 27 TxFD-2- (in), 38 TxFD-3+ (in), 39 TxFD-3- (in), 50 TxFD-4+ (in), 51 TxFD-4- (in), 62 TxFD-5+ (in), 63 TxFD-5- (in), 74 TxFD-6+ (in), 75 TxFD-6- (in), 96 RxFD-6- (out), 97 RxFD-6+ (out), 108 RxFD-5- (out), 109 RxFD-5+ (out), 120 RxFD-4- (out), 121 RxFD-4+ (out), 132 RxFD-3- (out), 133 RxFD-3+ (out), 144 RxFD-2- (out), 145 RxFD-2+ (out), 156 RxFD-1- (out), 157 RxFD-1+ (out)
part E pins: 20 TxFF-1+ (in), 21 TxFF-1- (in), 32 TxFF-2+ (in), 33 TxFF-2- (in), 44 TxFF-3+ (in), 45 TxFF-3- (in), 56 TxFF-4+ (in), 57 TxFF-4- (in), 68 TxFF-5+ (in), 69 TxFF-5- (in), 80 TxFF-6+ (in), 81 TxFF-6- (in), 90 RxFF-6- (out), 91 RxFF-6+ (out), 102 RxFF-5- (out), 103 RxFF-5+ (out), 114 RxFF-4- (out), 115 RxFF-4+ (out), 126 RxFF-3- (out), 127 RxFF-3+ (out), 138 RxFF-2- (out), 139 RxFF-2+ (out), 150 RxFF-1- (out), 151 RxFF-1+ (out)
part F pins: 23 TxFG-1+ (in), 24 TxFG-1- (in), 35 TxFG-2+ (in), 36 TxFG-2- (in), 47 TxFG-3+ (in), 48 TxFG-3- (in), 59 TxFG-4+ (in), 60 TxFG-4- (in), 71 TxFG-5+ (in), 72 TxFG-5- (in), 83 TxFG-6+ (in), 84 TxFG-6- (in), 87 RxFG-6- (out), 88 RxFG-6+ (out), 99 RxFG-5- (out), 100 RxFG-5+ (out), 111 RxFG-4- (out), 112 RxFG-4+ (out), 123 RxFG-3- (out), 124 RxFG-3+ (out), 135 RxFG-2- (out), 136 RxFG-2+ (out), 147 RxFG-1- (out), 148 RxFG-1+ (out)
part G pins: 8 TxFUD+ (in), 9 TxFUD- (in), 11 TxFUE+ (in), 12 TxFUE- (in), 159 RxFUE- (out), 160 RxFUE+ (out), 162 RxFUD- (out), 163 RxFUD+ (out)

## VCTCXO_VM53S
designator IC?, comment VM53S
VCTCXO oscillator
footprint VCTCXO_VM53S
pins: 1 VCtrl (in), 2 GND (power), 3 OUT (out), 4 +Vs (power)

## VCXO_CFPV_45
designator IC?, comment CFPV-45
VCXO oscillator
footprint vs-705
pins: 1 VCtrl (in), 2 Enable (in), 3 GND (power), 4 OUT (out), 6 +Vs (power)

## VS-705
designator IC?
Vectron Voltage Controlled SAW Oscillator; Value: *
footprint VS-705
pins: 1 VC (in), 2 OSelect (in), 3 GND (power), 4 Output (out), 5 COutput (out), 6 VCC (power)

## VSC8221
designator IC?
Vitesse Gigabit Ethernet PHY
footprint BGA100C80P10X10_900X900X110 (BGA, 100-Leads, Body 9.0x9.0mm,  Pitch 0.80mm)
part A pins: C4 VDDIOCTRL, C6 GND, C7 GND, C8 VDD33A, C9 VDDREG, D4 GND, D5 GND, D6 GND, D7 GND, D8 GND, D9 VDD33A, E4 GND, E5 GND, E6 GND, E7 GND, E8 GND, E9 VDD12A, F3 VDD12, F4 GND, F5 GND, F6 GND, F7 GND, F8 VDD12, G3 VDD12, G4 GND, G5 GND, G6 GND, G7 GND, G10 VDD12, H4 VDDIO, H6 GND, H7 VDD12, H8 VDDIOMICRO
part B pins: A1 MODDEF0/CLKOUT, A2 ~{RESE}T, A3 LED1, A4 LED2, A5 CMODE0, A10 XTAL2, B1 RXLOS/SIGDET, B2 TDO, B3 LED0, B4 CMODE3, B5 CMODE1, B10 XTAL1/REFCLK, C2 TCK, C3 TDI, C5 CMODE2, C10 REGEN, D3 TMS, D10 REGOUT, E3 ~{TRST}, E10 REFREXT, F9 EECLK/PLLMODE, F10 REFFILT, G8 TXDIS/~{SRESET}, G9 EEDAT, H9  MDINT, H10 CLKOUTMICRO/~{OSCDIS}, J9 MODDEF2/MDIO, J10 MODDEF1/MDC
part C pins: J7 SCLKP, J8 SCLKN, K7 RDN, K8 RDP, K9 TDP, K10 TDN
part D pins: A6 TXVPD, A7 TXVPC, A8 TXVPB, A9 TXVPA, B6 TXVND, B7 TXVNC, B8 TXVNB, B9 TXVNA

## VX-501
designator IC?
Vectron VCXO
pins: 1 VC, 2 FREQSEL, 3 GND (power), 4 OUT+ (out), 5 OUT- (out), 6 VS (power)

## WUERTH_RJ45
designator CN?  (value not drawn)
RJ45 Ethernet jack with 2 LEDs
footprint CON_RJ45_WUERTH_615008137421
pins: 1 DA+, 2 DA-, 3 DB+, 4 DC+, 5 DC-, 6 DB-, 7 DD+, 8 DD-, 9 SHIELD, LA+ Led_A+ (power), LA- Led_A- (power), LB+ Led_B+ (power), LB- Led_B- (power)

## X_CRYSTAL_SMD_ABM3
designator X?, comment ABRACON_ABM3
Miniature crystal oscillator (ABRACON)
footprint XTALL_ABM8 (Footprint not found)
footprint XTALL_ABM3 (Abracon ABM3 xtal series)
footprint ABRACON_ABMM
pins: 1, 2, 3, 4
2 alternate drawings of the same symbol

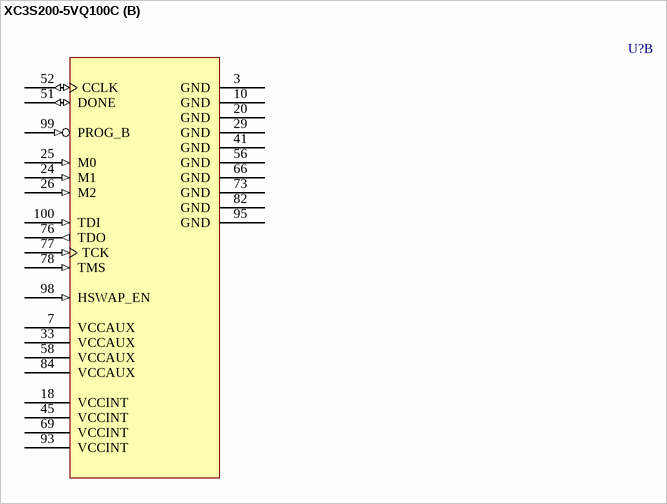
[diagram p23: symbol XC3S200-5VQ100C]

## XC3S200-5VQ100C
designator U?
Spartan-3 1.2V FPGA, 63 User I/Os, 100-pin VQFP, High Performance, Commercial Grade; Package Information: Latest Revision: ver1.1, Oct-2002; Code - JEDEC: MS-026-AED; Code - IPC: SQFP14X14-100; Published: 17-Sep-2003; Datasheet: Latest Revision: Dec-2003; Package Reference: VQ100; Publisher: Altium Limited
footprint VQ100 (100-Pin Very Thin Quad Flat Pack (VQ100))
3D model XC3S200-VQ100 (100-Pin Very Thin Quad Flat Pack (VQ100))
part A pins: 1 IO_L01P_7/VRN_7 (io), 2 IO_L01N_7/VRP_7 (io), 4 IO_L21P_7 (io), 5 IO_L21N_7 (io), 6 VCCO_7 (power), 8 IO_L23P_7 (io), 9 IO_L23N_7 (io), 11 IO_L40P_7 (io), 12 IO_L40N_7/VREF_7 (io), 13 IO_L40P_6/VREF_6 (io), 14 IO_L40N_6 (io), 15 IO_L24P_6 (io), 16 IO_L24N_6/VREF_6 (io), 17 IO (io), 19 VCCO_6 (power), 21 IO (io), 22 IO_L01P_6/VRN_6 (io), 23 IO_L01N_6/VRP_6 (io), 27 IO_L01P_5/CS_B (io), 28 IO_L01N_5/RDWR_B (io), 30 IO_L28P_5/D7 (io), 31 VCCO_5 (power), 32 IO_L28N_5/D6 (io), 34 IO_L31P_5/D5 (io), 35 IO_L31N_5/D4 (io), 36 IO_L32P_5/GCLK2 (io), 37 IO_L32N_5/GCLK3 (io), 38 IO_L32P_4/GCLK0 (io), 39 IO_L32N_4/GCLK1 (io), 40 IO_L31P_4/DOUT/BUSY (io), 42 IO_L31N_4/INIT_B (io), 43 IO_L30P_4/D3 (io), 44 IO_L30N_4/D2 (io), 46 VCCO_4 (power), 47 IO_L27P_4/D1 (io), 48 IO_L27N_4/DIN/D0 (io), 49 IO_L01P_4/VRN_4 (io), 50 IO_L01N_4/VRP_4 (io), 53 IO_L01P_3/VRN_3 (io), 54 IO_L01N_3/VRP_3 (io), 55 IO (io), 57 VCCO_3 (power), 59 IO (io), 60 IO_L24P_3 (io), 61 IO_L24N_3 (io), 62 IO_L40P_3 (io), 63 IO_L40N_3/VREF_3 (io), 64 IO_L40P_2/VREF_2 (io), 65 IO_L40N_2 (io), 67 IO_L24P_2 (io), 68 IO_L24N_2 (io), 70 VCCO_2 (power), 71 IO_L21P_2 (io), 72 IO_L21N_2 (io), 74 IO_L01P_2/VRN_2 (io), 75 IO_L01N_2/VRP_2 (io), 79 IO_L01P_1/VRN_1 (io), 80 IO_L01N_1/VRP_1 (io), 81 IO (io), 83 VCCO_1 (power), 85 IO_L31P_1 (io), 86 IO_L31N_1/VREF_1 (io), 87 IO_L32P_1/GCLK4 (io), 88 IO_L32N_1/GCLK5 (io), 89 IO_L32P_0/GCLK6 (io), 90 IO_L32N_0/GCLK7 (io), 91 IO_L31P_0/VREF_0 (io), 92 IO_L31N_0 (io), 94 VCCO_0 (power), 96 IO_L01P_0/VRN_0 (io), 97 IO_L01N_0/VRP_0 (io)
part B pins: 3 GND (power), 7 VCCAUX (power), 10 GND (power), 18 VCCINT (power), 20 GND (power), 24 M1 (in), 25 M0 (in), 26 M2 (in), 29 GND (power), 33 VCCAUX (power), 41 GND (power), 45 VCCINT (power), 51 DONE (io), 52 CCLK (io), 56 GND (power), 58 VCCAUX (power), 66 GND (power), 69 VCCINT (power), 73 GND (power), 76 TDO (out), 77 TCK (in), 78 TMS (in), 82 GND (power), 84 VCCAUX (power), 93 VCCINT (power), 95 GND (power), 98 HSWAP_EN (in), 99 PROG_B (in), 100 TDI (in)
part A text: BANK 0; BANK 1; BANK 7; BANK 2; BANK 6; BANK 3; BANK 5; BANK 4